# EAGLE library part ADG732BSUZ-REEL (library ADG732BSUZ-REEL)
16-/32-Channel, 4 , +1.8 V to +5.5 V and +/-2.5 V Analog Multiplexers. Source: Datasheet <https://componentsearchengine.com/Datasheets/1/ADG732BSUZ-REEL.pdf>
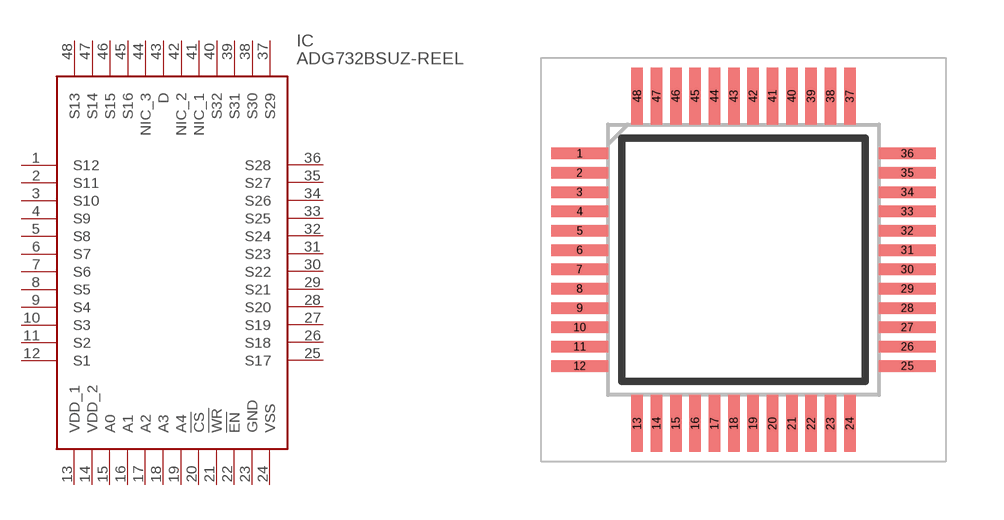
[diagram p0: symbol with the pads of QFP50P900X900X120-48N; footprint QFP50P900X900X120-48N]

Designator prefix IC

## ADG732BSUZ-REEL (Description: 16-/32-Channel, 4 , +1.8 V to +5.5 V and +/-2.5 V Analog Multiplexers.; Height: 1.2mm; Manufacturer_Name: Analog Devices; Manufacturer_Part_Number: ADG732BSUZ-REEL; Mouser_Part_Number: 584-ADG732BSUZ-R; Mouser_Price-Stock: https://www.mouser.co.uk/ProductDetail/Analog-Devices/ADG732BSUZ-REEL?qs=BpaRKvA4VqGYLEdHjoL3%2FQ%3D%3D)  [QFP50P900X900X120-48N]
1  S12
2  S11
3  S10
4  S9
5  S8
6  S7
7  S6
8  S5
9  S4
10  S3
11  S2
12  S1
13  VDD_1
14  VDD_2
15  A0
16  A1
17  A2
18  A3
19  A4
20  !CS
21  !WR
22  !EN
23  GND
24  VSS
25  S17
26  S18
27  S19
28  S20
29  S21
30  S22
31  S23
32  S24
33  S25
34  S26
35  S27
36  S28
37  S29
38  S30
39  S31
40  S32
41  NIC_1
42  NIC_2
43  D
44  NIC_3
45  S16
46  S15
47  S14
48  S13

## Footprint QFP50P900X900X120-48N (pad centres in mm)
SU-48 (TQFP)
smd 1.475 x 0.3: 1 -4.238,2.75; 2 -4.238,2.25; 3 -4.238,1.75; 4 -4.238,1.25; 5 -4.238,0.75; 6 -4.238,0.25; 7 -4.238,-0.25; 8 -4.238,-0.75; 9 -4.238,-1.25; 10 -4.238,-1.75; 11 -4.238,-2.25; 12 -4.238,-2.75; 25 4.238,-2.75; 26 4.238,-2.25; 27 4.238,-1.75; 28 4.238,-1.25; 29 4.238,-0.75; 30 4.238,-0.25; 31 4.238,0.25; 32 4.238,0.75; 33 4.238,1.25; 34 4.238,1.75; 35 4.238,2.25; 36 4.238,2.75
smd 0.3 x 1.475: 13 -2.75,-4.238; 14 -2.25,-4.238; 15 -1.75,-4.238; 16 -1.25,-4.238; 17 -0.75,-4.238; 18 -0.25,-4.238; 19 0.25,-4.238; 20 0.75,-4.238; 21 1.25,-4.238; 22 1.75,-4.238; 23 2.25,-4.238; 24 2.75,-4.238; 37 2.75,4.238; 38 2.25,4.238; 39 1.75,4.238; 40 1.25,4.238; 41 0.75,4.238; 42 0.25,4.238; 43 -0.25,4.238; 44 -0.75,4.238; 45 -1.25,4.238; 46 -1.75,4.238; 47 -2.25,4.238; 48 -2.75,4.238